# EAGLE library part XC2S30-5VQG100C (library Spartan2Bone)
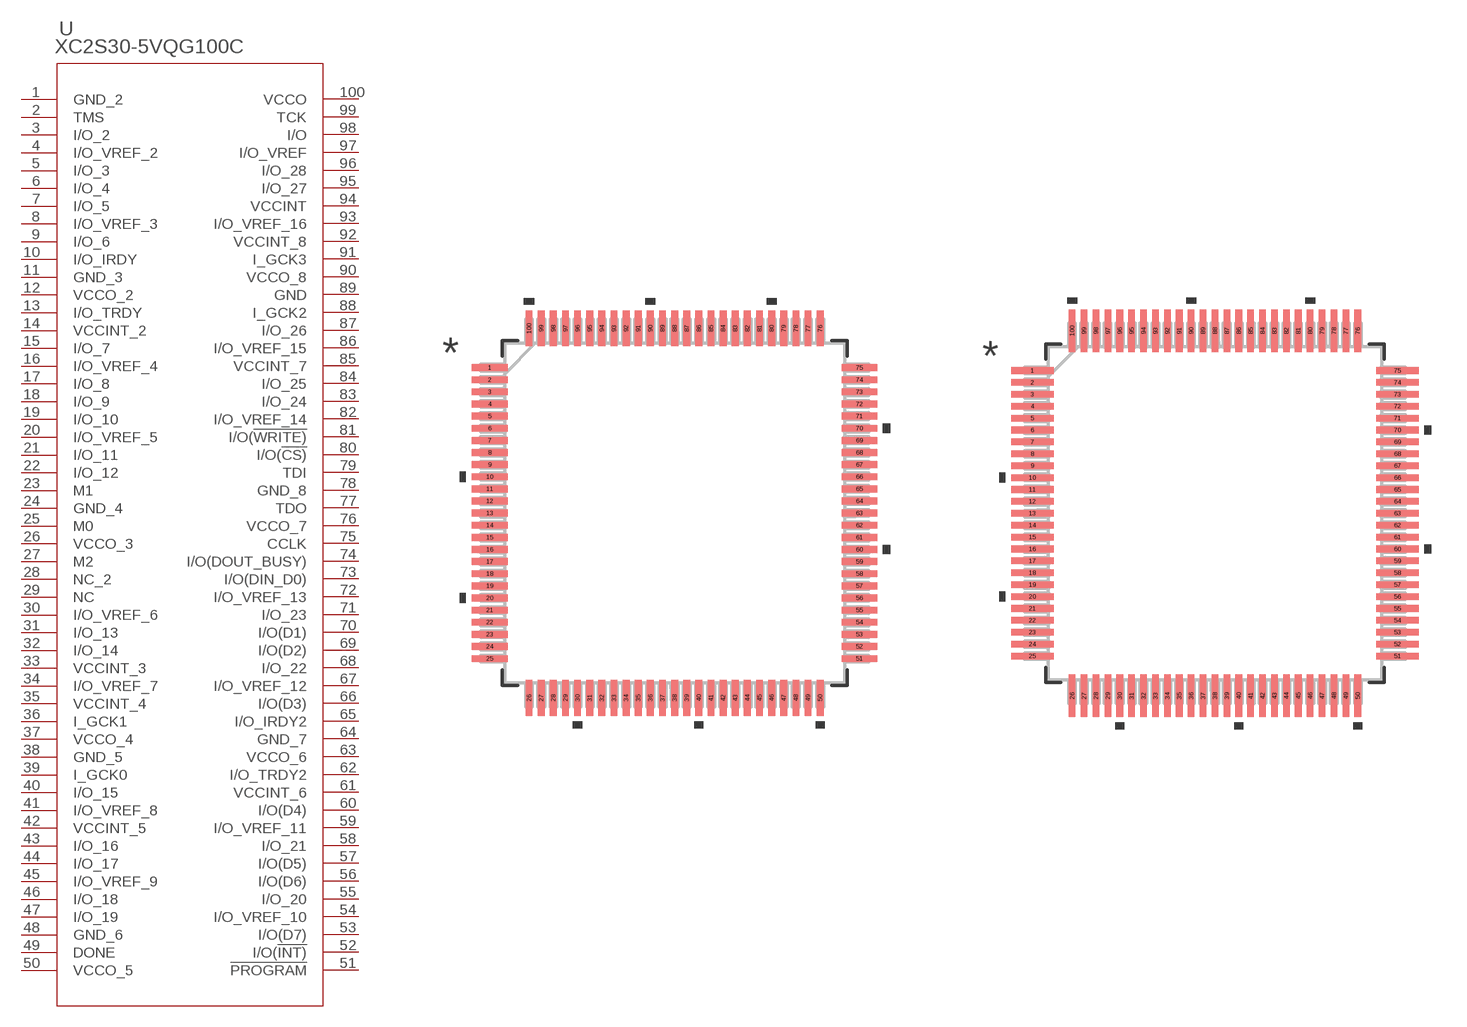
[diagram p0: symbol with the pads of 100-VQFP; footprints 100-VQFP, 100-VQFP-M]

Designator prefix -

## XC2S30-5VQG100C (MANUFACTURER_PART_NUMBER: XC2S305VQG100C; VENDOR: Xilinx Inc)  [100-VQFP]
1  GND_2  pas
2  TMS  pas
3  I/O_2  pas
4  I/O_VREF_2  pas
5  I/O_3  pas
6  I/O_4  pas
7  I/O_5  pas
8  I/O_VREF_3  pas
9  I/O_6  pas
10  I/O_IRDY  pas
11  GND_3  pas
12  VCCO_2  pas
13  I/O_TRDY  pas
14  VCCINT_2  pas
15  I/O_7  pas
16  I/O_VREF_4  pas
17  I/O_8  pas
18  I/O_9  pas
19  I/O_10  pas
20  I/O_VREF_5  pas
21  I/O_11  pas
22  I/O_12  pas
23  M1  pas
24  GND_4  pas
25  M0  pas
26  VCCO_3  pas
27  M2  pas
28  NC_2  pas
29  NC  pas
30  I/O_VREF_6  pas
31  I/O_13  pas
32  I/O_14  pas
33  VCCINT_3  pas
34  I/O_VREF_7  pas
35  VCCINT_4  pas
36  I_GCK1  pas
37  VCCO_4  pas
38  GND_5  pas
39  I_GCK0  pas
40  I/O_15  pas
41  I/O_VREF_8  pas
42  VCCINT_5  pas
43  I/O_16  pas
44  I/O_17  pas
45  I/O_VREF_9  pas
46  I/O_18  pas
47  I/O_19  pas
48  GND_6  pas
49  DONE  pas
50  VCCO_5  pas
51  !PROGRAM  pas
52  I/O(!INT)  pas
53  I/O(D7)  pas
54  I/O_VREF_10  pas
55  I/O_20  pas
56  I/O(D6)  pas
57  I/O(D5)  pas
58  I/O_21  pas
59  I/O_VREF_11  pas
60  I/O(D4)  pas
61  VCCINT_6  pas
62  I/O_TRDY2  pas
63  VCCO_6  pas
64  GND_7  pas
65  I/O_IRDY2  pas
66  I/O(D3)  pas
67  I/O_VREF_12  pas
68  I/O_22  pas
69  I/O(D2)  pas
70  I/O(D1)  pas
71  I/O_23  pas
72  I/O_VREF_13  pas
73  I/O(DIN_D0)  pas
74  I/O(DOUT_BUSY)  pas
75  CCLK  pas
76  VCCO_7  pas
77  TDO  pas
78  GND_8  pas
79  TDI  pas
80  I/O(!CS)  pas
81  I/O(!WRITE)  pas
82  I/O_VREF_14  pas
83  I/O_24  pas
84  I/O_25  pas
85  VCCINT_7  pas
86  I/O_VREF_15  pas
87  I/O_26  pas
88  I_GCK2  pas
89  GND  pas
90  VCCO_8  pas
91  I_GCK3  pas
92  VCCINT_8  pas
93  I/O_VREF_16  pas
94  VCCINT  pas
95  I/O_27  pas
96  I/O_28  pas
97  I/O_VREF  pas
98  I/O  pas
99  TCK  pas
100  VCCO  pas

## XC2S30-5VQG100C100-VQFP-M (MANUFACTURER_PART_NUMBER: XC2S305VQG100C; VENDOR: Xilinx Inc)  [100-VQFP-M]
Pads as for 100-VQFP

## XC2S30-5VQG100C100-VQFP-L (MANUFACTURER_PART_NUMBER: XC2S305VQG100C; VENDOR: Xilinx Inc)  [100-VQFP-L]
Pads as for 100-VQFP

## Footprint 100-VQFP (pad centres in mm)
smd 1.473 x 0.279: 1 -7.62,6; 2 -7.62,5.5; 3 -7.62,5; 4 -7.62,4.5; 5 -7.62,4; 6 -7.62,3.5; 7 -7.62,3; 8 -7.62,2.5; 9 -7.62,2; 10 -7.62,1.5; 11 -7.62,1; 12 -7.62,0.5; 13 -7.62,0; 14 -7.62,-0.5; 15 -7.62,-1; 16 -7.62,-1.5; 17 -7.62,-2; 18 -7.62,-2.5; 19 -7.62,-3; 20 -7.62,-3.5; 21 -7.62,-4; 22 -7.62,-4.5; 23 -7.62,-5; 24 -7.62,-5.5; 25 -7.62,-6; 51 7.62,-6; 52 7.62,-5.5; 53 7.62,-5; 54 7.62,-4.5; 55 7.62,-4; 56 7.62,-3.5; 57 7.62,-3; 58 7.62,-2.5; 59 7.62,-2; 60 7.62,-1.5; 61 7.62,-1; 62 7.62,-0.5; 63 7.62,0; 64 7.62,0.5; 65 7.62,1; 66 7.62,1.5; 67 7.62,2; 68 7.62,2.5; 69 7.62,3; 70 7.62,3.5; 71 7.62,4; 72 7.62,4.5; 73 7.62,5; 74 7.62,5.5; 75 7.62,6
smd 0.279 x 1.473: 26 -6,-7.62; 27 -5.5,-7.62; 28 -5,-7.62; 29 -4.5,-7.62; 30 -4,-7.62; 31 -3.5,-7.62; 32 -3,-7.62; 33 -2.5,-7.62; 34 -2,-7.62; 35 -1.5,-7.62; 36 -1,-7.62; 37 -0.5,-7.62; 38 0,-7.62; 39 0.5,-7.62; 40 1,-7.62; 41 1.5,-7.62; 42 2,-7.62; 43 2.5,-7.62; 44 3,-7.62; 45 3.5,-7.62; 46 4,-7.62; 47 4.5,-7.62; 48 5,-7.62; 49 5.5,-7.62; 50 6,-7.62; 76 6,7.62; 77 5.5,7.62; 78 5,7.62; 79 4.5,7.62; 80 4,7.62; 81 3.5,7.62; 82 3,7.62; 83 2.5,7.62; 84 2,7.62; 85 1.5,7.62; 86 1,7.62; 87 0.5,7.62; 88 0,7.62; 89 -0.5,7.62; 90 -1,7.62; 91 -1.5,7.62; 92 -2,7.62; 93 -2.5,7.62; 94 -3,7.62; 95 -3.5,7.62; 96 -4,7.62; 97 -4.5,7.62; 98 -5,7.62; 99 -5.5,7.62; 100 -6,7.62

## Footprint 100-VQFP-M (pad centres in mm)
smd 1.778 x 0.279: 1 -7.671,6; 2 -7.671,5.5; 3 -7.671,5; 4 -7.671,4.5; 5 -7.671,4; 6 -7.671,3.5; 7 -7.671,3; 8 -7.671,2.5; 9 -7.671,2; 10 -7.671,1.5; 11 -7.671,1; 12 -7.671,0.5; 13 -7.671,0; 14 -7.671,-0.5; 15 -7.671,-1; 16 -7.671,-1.5; 17 -7.671,-2; 18 -7.671,-2.5; 19 -7.671,-3; 20 -7.671,-3.5; 21 -7.671,-4; 22 -7.671,-4.5; 23 -7.671,-5; 24 -7.671,-5.5; 25 -7.671,-6; 51 7.671,-6; 52 7.671,-5.5; 53 7.671,-5; 54 7.671,-4.5; 55 7.671,-4; 56 7.671,-3.5; 57 7.671,-3; 58 7.671,-2.5; 59 7.671,-2; 60 7.671,-1.5; 61 7.671,-1; 62 7.671,-0.5; 63 7.671,0; 64 7.671,0.5; 65 7.671,1; 66 7.671,1.5; 67 7.671,2; 68 7.671,2.5; 69 7.671,3; 70 7.671,3.5; 71 7.671,4; 72 7.671,4.5; 73 7.671,5; 74 7.671,5.5; 75 7.671,6
smd 0.279 x 1.778: 26 -6,-7.671; 27 -5.5,-7.671; 28 -5,-7.671; 29 -4.5,-7.671; 30 -4,-7.671; 31 -3.5,-7.671; 32 -3,-7.671; 33 -2.5,-7.671; 34 -2,-7.671; 35 -1.5,-7.671; 36 -1,-7.671; 37 -0.5,-7.671; 38 0,-7.671; 39 0.5,-7.671; 40 1,-7.671; 41 1.5,-7.671; 42 2,-7.671; 43 2.5,-7.671; 44 3,-7.671; 45 3.5,-7.671; 46 4,-7.671; 47 4.5,-7.671; 48 5,-7.671; 49 5.5,-7.671; 50 6,-7.671; 76 6,7.671; 77 5.5,7.671; 78 5,7.671; 79 4.5,7.671; 80 4,7.671; 81 3.5,7.671; 82 3,7.671; 83 2.5,7.671; 84 2,7.671; 85 1.5,7.671; 86 1,7.671; 87 0.5,7.671; 88 0,7.671; 89 -0.5,7.671; 90 -1,7.671; 91 -1.5,7.671; 92 -2,7.671; 93 -2.5,7.671; 94 -3,7.671; 95 -3.5,7.671; 96 -4,7.671; 97 -4.5,7.671; 98 -5,7.671; 99 -5.5,7.671; 100 -6,7.671

## Footprint 100-VQFP-L (pad centres in mm)
smd 1.168 x 0.279: 1 -7.569,6; 2 -7.569,5.5; 3 -7.569,5; 4 -7.569,4.5; 5 -7.569,4; 6 -7.569,3.5; 7 -7.569,3; 8 -7.569,2.5; 9 -7.569,2; 10 -7.569,1.5; 11 -7.569,1; 12 -7.569,0.5; 13 -7.569,0; 14 -7.569,-0.5; 15 -7.569,-1; 16 -7.569,-1.5; 17 -7.569,-2; 18 -7.569,-2.5; 19 -7.569,-3; 20 -7.569,-3.5; 21 -7.569,-4; 22 -7.569,-4.5; 23 -7.569,-5; 24 -7.569,-5.5; 25 -7.569,-6; 51 7.569,-6; 52 7.569,-5.5; 53 7.569,-5; 54 7.569,-4.5; 55 7.569,-4; 56 7.569,-3.5; 57 7.569,-3; 58 7.569,-2.5; 59 7.569,-2; 60 7.569,-1.5; 61 7.569,-1; 62 7.569,-0.5; 63 7.569,0; 64 7.569,0.5; 65 7.569,1; 66 7.569,1.5; 67 7.569,2; 68 7.569,2.5; 69 7.569,3; 70 7.569,3.5; 71 7.569,4; 72 7.569,4.5; 73 7.569,5; 74 7.569,5.5; 75 7.569,6
smd 0.279 x 1.168: 26 -6,-7.569; 27 -5.5,-7.569; 28 -5,-7.569; 29 -4.5,-7.569; 30 -4,-7.569; 31 -3.5,-7.569; 32 -3,-7.569; 33 -2.5,-7.569; 34 -2,-7.569; 35 -1.5,-7.569; 36 -1,-7.569; 37 -0.5,-7.569; 38 0,-7.569; 39 0.5,-7.569; 40 1,-7.569; 41 1.5,-7.569; 42 2,-7.569; 43 2.5,-7.569; 44 3,-7.569; 45 3.5,-7.569; 46 4,-7.569; 47 4.5,-7.569; 48 5,-7.569; 49 5.5,-7.569; 50 6,-7.569; 76 6,7.569; 77 5.5,7.569; 78 5,7.569; 79 4.5,7.569; 80 4,7.569; 81 3.5,7.569; 82 3,7.569; 83 2.5,7.569; 84 2,7.569; 85 1.5,7.569; 86 1,7.569; 87 0.5,7.569; 88 0,7.569; 89 -0.5,7.569; 90 -1,7.569; 91 -1.5,7.569; 92 -2,7.569; 93 -2.5,7.569; 94 -3,7.569; 95 -3.5,7.569; 96 -4,7.569; 97 -4.5,7.569; 98 -5,7.569; 99 -5.5,7.569; 100 -6,7.569